# Altium integrated library LQW15DN100M00D.IntLib: 1 symbol
Pins are listed as number, name and electrical type; pins without a type are passive.

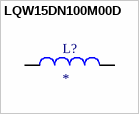
[diagram p0: symbol LQW15DN100M00D]

## LQW15DN100M00D
designator L?
MF: {'manufacturer': u'Murata Electronics'}; MP: LQW15DN100M00D; Package: None; Price: None; Value: *; Availability: Unavailable
footprint INDC1106X70N
pins: 1, 2